# Altium footprint library PADS.PcbLib: 9 footprints
Each footprint in its own frame and in the unit in brackets; x right, y up, seen from the top. Pads: shape width x height; smd on the part's side, far side on the other; paste and mask are expansions set on the pad; w line width, h text height; cw(c..) or ccw(c..) is an arc to the next point about the centre after c.
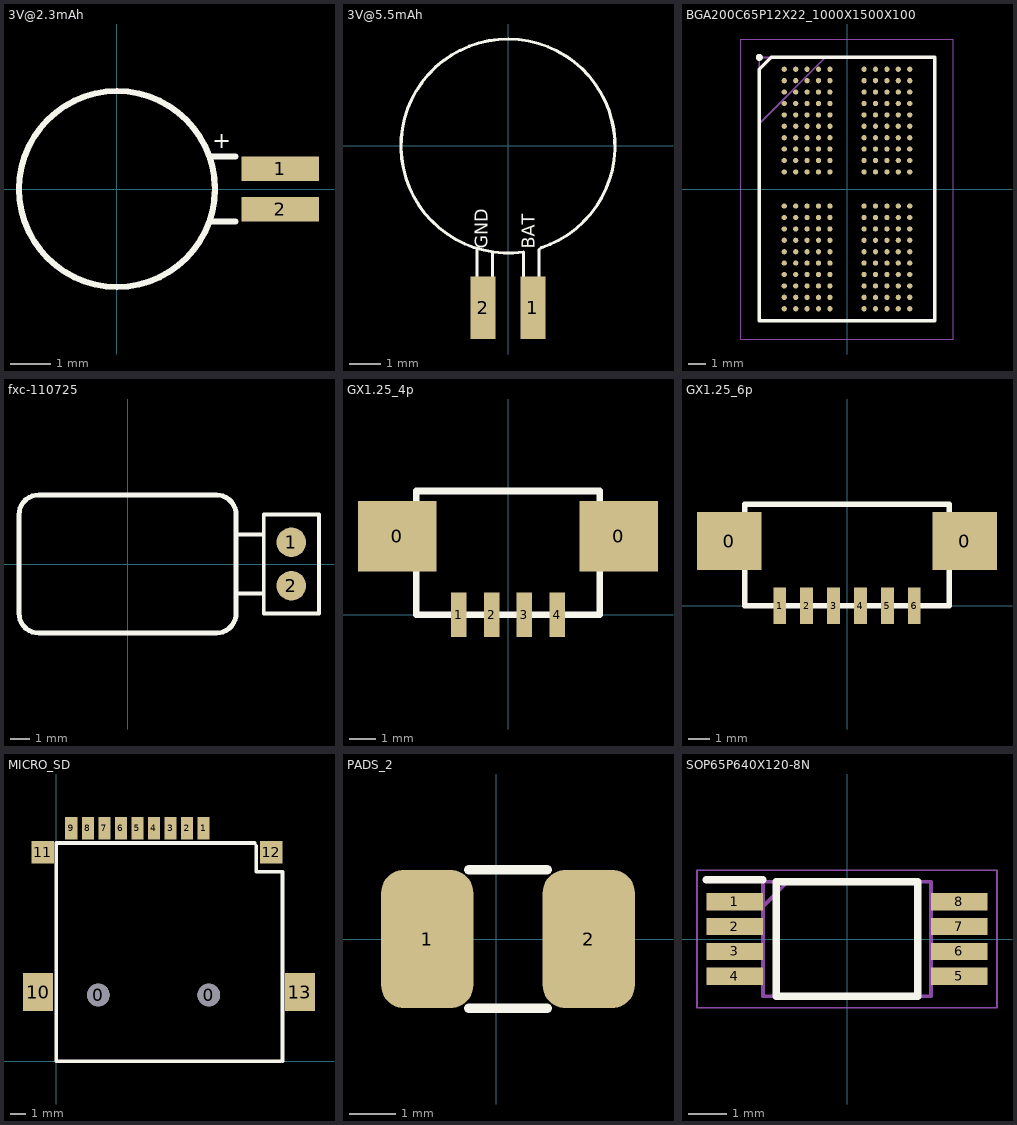
[diagram p0: the footprints below, top view; thin cyan lines are the x and y axes]

## 3V@2.3mAh [mm]
pads (2):
  rect 1.9x0.6 smd: 1(4,0.5) 2(4,-0.5)
Top Overlay:
  circle w0.15: c0,0 r2.4
  lines w0.15: 2.3,-0.8 2.9,-0.8 ; 2.3,0.8 2.9,0.8
  text "+" at 2.8,1 h0.4
3D body "ML421.STEP": height 2.4, standoff 0, extent -3.33,-4.128 4.927,4.128

## 3V@5.5mAh [mm]
pads (2):
  rect 0.8x2 smd: 1(0.8,-5.2) 2(-0.8,-5.2)
Top Overlay:
  lines w0.1: -1,-3.32 -1,-5.9 -0.5,-5.9 -0.5,-3.4 ; 1,-3.32 1,-5.9 0.5,-5.9 0.5,-3.4 cw(c0,0) 1.055,-3.271
  text "BAT" at 1,-3.3 h0.7
  text "GND" at -0.5,-3.3 h0.7

## BGA200C65P12X22_1000X1500X100 [mm]
pads (200):
  round 0.298 smd: A1(-3.575,6.825) A2(-2.925,6.825) A3(-2.275,6.825) A4(-1.625,6.825) A5(-0.975,6.825) A8(0.975,6.825) A9(1.625,6.825) A10(2.275,6.825) A11(2.925,6.825) A12(3.575,6.825) AA1(-3.575,-6.175) AA2(-2.925,-6.175) AA3(-2.275,-6.175) AA4(-1.625,-6.175) AA5(-0.975,-6.175) AA8(0.975,-6.175) AA9(1.625,-6.175) AA10(2.275,-6.175) AA11(2.925,-6.175) AA12(3.575,-6.175) AB1(-3.575,-6.825) AB2(-2.925,-6.825) AB3(-2.275,-6.825) AB4(-1.625,-6.825) AB5(-0.975,-6.825) AB8(0.975,-6.825) AB9(1.625,-6.825) AB10(2.275,-6.825) AB11(2.925,-6.825) AB12(3.575,-6.825) B1(-3.575,6.175) B2(-2.925,6.175) B3(-2.275,6.175) B4(-1.625,6.175) B5(-0.975,6.175) B8(0.975,6.175) B9(1.625,6.175) B10(2.275,6.175) B11(2.925,6.175) B12(3.575,6.175) C1(-3.575,5.525) C2(-2.925,5.525) C3(-2.275,5.525) C4(-1.625,5.525) C5(-0.975,5.525) C8(0.975,5.525) C9(1.625,5.525) C10(2.275,5.525) C11(2.925,5.525) C12(3.575,5.525) D1(-3.575,4.875) D2(-2.925,4.875) D3(-2.275,4.875) D4(-1.625,4.875) D5(-0.975,4.875) D8(0.975,4.875) D9(1.625,4.875) D10(2.275,4.875) D11(2.925,4.875) D12(3.575,4.875) E1(-3.575,4.225) E2(-2.925,4.225) E3(-2.275,4.225) E4(-1.625,4.225) E5(-0.975,4.225) E8(0.975,4.225) E9(1.625,4.225) E10(2.275,4.225) E11(2.925,4.225) E12(3.575,4.225) F1(-3.575,3.575) F2(-2.925,3.575) F3(-2.275,3.575) F4(-1.625,3.575) F5(-0.975,3.575) F8(0.975,3.575) F9(1.625,3.575) F10(2.275,3.575) F11(2.925,3.575) F12(3.575,3.575) G1(-3.575,2.925) G2(-2.925,2.925) G3(-2.275,2.925) G4(-1.625,2.925) G5(-0.975,2.925) G8(0.975,2.925) G9(1.625,2.925) G10(2.275,2.925) G11(2.925,2.925) G12(3.575,2.925) H1(-3.575,2.275) H2(-2.925,2.275) H3(-2.275,2.275) H4(-1.625,2.275) H5(-0.975,2.275) H8(0.975,2.275) H9(1.625,2.275) H10(2.275,2.275) H11(2.925,2.275) H12(3.575,2.275) J1(-3.575,1.625) J2(-2.925,1.625) J3(-2.275,1.625) J4(-1.625,1.625) J5(-0.975,1.625) J8(0.975,1.625) J9(1.625,1.625) J10(2.275,1.625) J11(2.925,1.625) J12(3.575,1.625) K1(-3.575,0.975) K2(-2.925,0.975) K3(-2.275,0.975) K4(-1.625,0.975) K5(-0.975,0.975) K8(0.975,0.975) K9(1.625,0.975) K10(2.275,0.975) K11(2.925,0.975) K12(3.575,0.975) N1(-3.575,-0.975) N2(-2.925,-0.975) N3(-2.275,-0.975) N4(-1.625,-0.975) N5(-0.975,-0.975) N8(0.975,-0.975) N9(1.625,-0.975) N10(2.275,-0.975) N11(2.925,-0.975) N12(3.575,-0.975) P1(-3.575,-1.625) P2(-2.925,-1.625) P3(-2.275,-1.625) P4(-1.625,-1.625) P5(-0.975,-1.625) P8(0.975,-1.625) P9(1.625,-1.625) P10(2.275,-1.625) P11(2.925,-1.625) P12(3.575,-1.625) R1(-3.575,-2.275) R2(-2.925,-2.275) R3(-2.275,-2.275) R4(-1.625,-2.275) R5(-0.975,-2.275) R8(0.975,-2.275) R9(1.625,-2.275) R10(2.275,-2.275) R11(2.925,-2.275) R12(3.575,-2.275) T1(-3.575,-2.925) T2(-2.925,-2.925) T3(-2.275,-2.925) T4(-1.625,-2.925) T5(-0.975,-2.925) T8(0.975,-2.925) T9(1.625,-2.925) T10(2.275,-2.925) T11(2.925,-2.925) T12(3.575,-2.925) U1(-3.575,-3.575) U2(-2.925,-3.575) U3(-2.275,-3.575) U4(-1.625,-3.575) U5(-0.975,-3.575) U8(0.975,-3.575) U9(1.625,-3.575) U10(2.275,-3.575) U11(2.925,-3.575) U12(3.575,-3.575) V1(-3.575,-4.225) V2(-2.925,-4.225) V3(-2.275,-4.225) V4(-1.625,-4.225) V5(-0.975,-4.225) V8(0.975,-4.225) V9(1.625,-4.225) V10(2.275,-4.225) V11(2.925,-4.225) V12(3.575,-4.225) W1(-3.575,-4.875) W2(-2.925,-4.875) W3(-2.275,-4.875) W4(-1.625,-4.875) W5(-0.975,-4.875) W8(0.975,-4.875) W9(1.625,-4.875) W10(2.275,-4.875) W11(2.925,-4.875) W12(3.575,-4.875) Y1(-3.575,-5.525) Y2(-2.925,-5.525) Y3(-2.275,-5.525) Y4(-1.625,-5.525) Y5(-0.975,-5.525) Y8(0.975,-5.525) Y9(1.625,-5.525) Y10(2.275,-5.525) Y11(2.925,-5.525) Y12(3.575,-5.525)
Top Overlay:
  circle w0.2: c-5,7.5 r0.1
  lines w0.2: -5,-7.5 -5,6.825 -4.325,7.5 5,7.5 5,-7.5 -5,-7.5
Mechanical 13:
  lines w0.1: -5,3.725 -1.225,7.5 ; -5,-7.5 -5,7.5 5,7.5 5,-7.5 -5,-7.5
Mechanical 15:
  lines w0.05: -6.05,-8.55 -6.05,8.55 6.05,8.55 6.05,-8.55 -6.05,-8.55
3D body "K4F6E3S4HM-MGCJ.stp": height 1, standoff 0, extent -5,-7.5 5,7.5

## fxc-110725 [mm]
height 2.5
pads (2):
  round 1.5 smd: 1(8.3,1.1) 2(8.3,-1.1)
Top Overlay:
  lines w0.2: 5.5,-1.5 6.9,-1.5 ; 5.5,1.5 6.9,1.5 ; 6.9,-2.5 9.7,-2.5 9.7,2.5 6.9,2.5 6.9,-2.5
  lines w0.25: -5.5,-2.5 ccw(c-4.5,-2.5) -4.5,-3.5 4.5,-3.5 ccw(c4.5,-2.5) 5.5,-2.5 5.5,2.5 ccw(c4.5,2.5) 4.5,3.5 -4.5,3.5 ccw(c-4.5,2.5) -5.5,2.5 -5.5,-2.5
3D body "Tapic Engine.STEP": height 2.5, standoff 0, extent -5.5,-3.5 9.5,3.5

## GX1.25_4p [mm]
pads (6):
  rect 3x2.7 smd: 0(-4.225,3) 0(4.225,3)
  rect 0.6x1.7 smd: 1(-1.875,0) 2(-0.625,0) 3(0.625,0) 4(1.875,0)
Top Overlay:
  lines w0.254: -3.5,0 -3.5,4.724 3.5,4.724 3.5,0 -3.5,0
3D body "WT4p1_25.STEP": height 3.6, standoff -0.06, extent -4.85,-0.152 4.9,4.897

## GX1.25_6p [mm]
pads (8):
  rect 3x2.7 smd: 0(-5.475,3) 0(5.475,3)
  rect 0.6x1.7 smd: 1(-3.125,0) 2(-1.875,0) 3(-0.625,0) 4(0.625,0) 5(1.875,0) 6(3.125,0)
Top Overlay:
  lines w0.254: -4.75,0 -4.75,4.724 -3.5,4.724 3.5,4.724 4.75,4.724 4.75,0 3.5,0 -3.5,0 -4.75,0
3D body "gx1.25_6p.stp": height 3.71, standoff 0.05, extent -6.074,-0.579 6.176,4.47

## MICRO_SD [mm]
pads (15):
  round 1.5 hole 1.5: 0(2.8,4.4) 0(10.15,4.4)
  rect 0.8x1.5 smd: 1(9.8,15.5) 2(8.7,15.5) 3(7.6,15.5) 4(6.5,15.5) 5(5.4,15.5) 6(4.3,15.5) 7(3.2,15.5) 8(2.1,15.5) 9(1,15.5)
  rect 2x2.55 smd: 10(-1.2,4.6) 13(16.2,4.6)
  rect 1.5x1.5 smd: 11(-0.9,13.9) 12(14.3,13.9)
Top Overlay:
  lines w0.254: 13.2,14.5 0,14.5 0,0 14.9,0 ; 13.3,14.3 13.3,12.6 15.05,12.6 15.05,0
3D body "Micro SD.STEP": height 1.8, standoff 0, extent -0.5,-0.05 15.7,15.7

## PADS_2 [mm]
pads (2):
  rrect50% 2x3 smd: 1(-1.5,0) 2(2,0)
Top Overlay:
  lines w0.2: -0.6,-1.5 1.1,-1.5 ; -0.6,1.5 1.1,1.5

## SOP65P640X120-8N [mm]
pads (8):
  rect 1.475x0.45 smd: 1(-2.938,0.975) 2(-2.938,0.325) 3(-2.938,-0.325) 4(-2.938,-0.975) 5(2.938,-0.975) 6(2.938,-0.325) 7(2.938,0.325) 8(2.938,0.975)
Top Overlay:
  lines w0.2: -3.675,1.55 -2.2,1.55 ; -1.85,-1.5 1.85,-1.5 1.85,1.5 -1.85,1.5 -1.85,-1.5
Mechanical 13:
  lines w0.1: -2.2,0.85 -1.55,1.5 ; -2.2,-1.5 2.2,-1.5 2.2,1.5 -2.2,1.5 -2.2,-1.5
Mechanical 15:
  lines w0.05: -3.925,-1.8 3.925,-1.8 3.925,1.8 -3.925,1.8 -3.925,-1.8
3D body "24AA256UID-I_ST.stp": height 1.2, standoff 0, extent -3.2,-1.5 3.2,1.5